# Altium footprint library HR2220V801R10.PcbLib: 1 footprints
Each footprint in its own frame and in the unit in brackets; x right, y up, seen from the top. Pads: shape width x height; smd on the part's side, far side on the other; paste and mask are expansions set on the pad; w line width, h text height; cw(c..) or ccw(c..) is an arc to the next point about the centre after c.
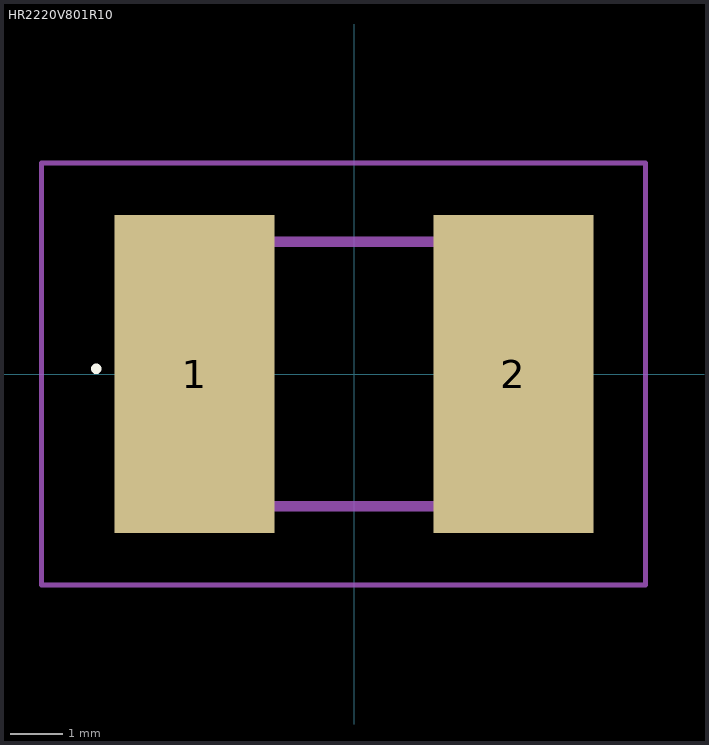
[diagram p0: the footprint, top view; thin cyan lines are the x and y axes]

## HR2220V801R10 [mm]
pads (2):
  rect 3.07x6.1 smd: 1(-3.06,0) 2(3.06,0)
Top Overlay:
  lines w0.1: -5,0.1 cw(c-4.95,0.1) -4.9,0.1 cw(c-4.95,0.1) -5,0.1
Mechanical 13:
  lines w0.2: -2.795,-2.54 -2.795,2.54 2.795,2.54 2.795,-2.54 -2.795,-2.54
Mechanical 15:
  lines w0.1: -6,-4.05 -6,4.05 5.595,4.05 5.595,-4.05 -6,-4.05
3D body: height 3.86, standoff 0, extent -2.795,-2.54 2.795,2.54